# Altium schematic symbol library SchlibPadometer.SchLib: 28 symbols
Pins are listed as number, name and electrical type; pins without a type are passive.

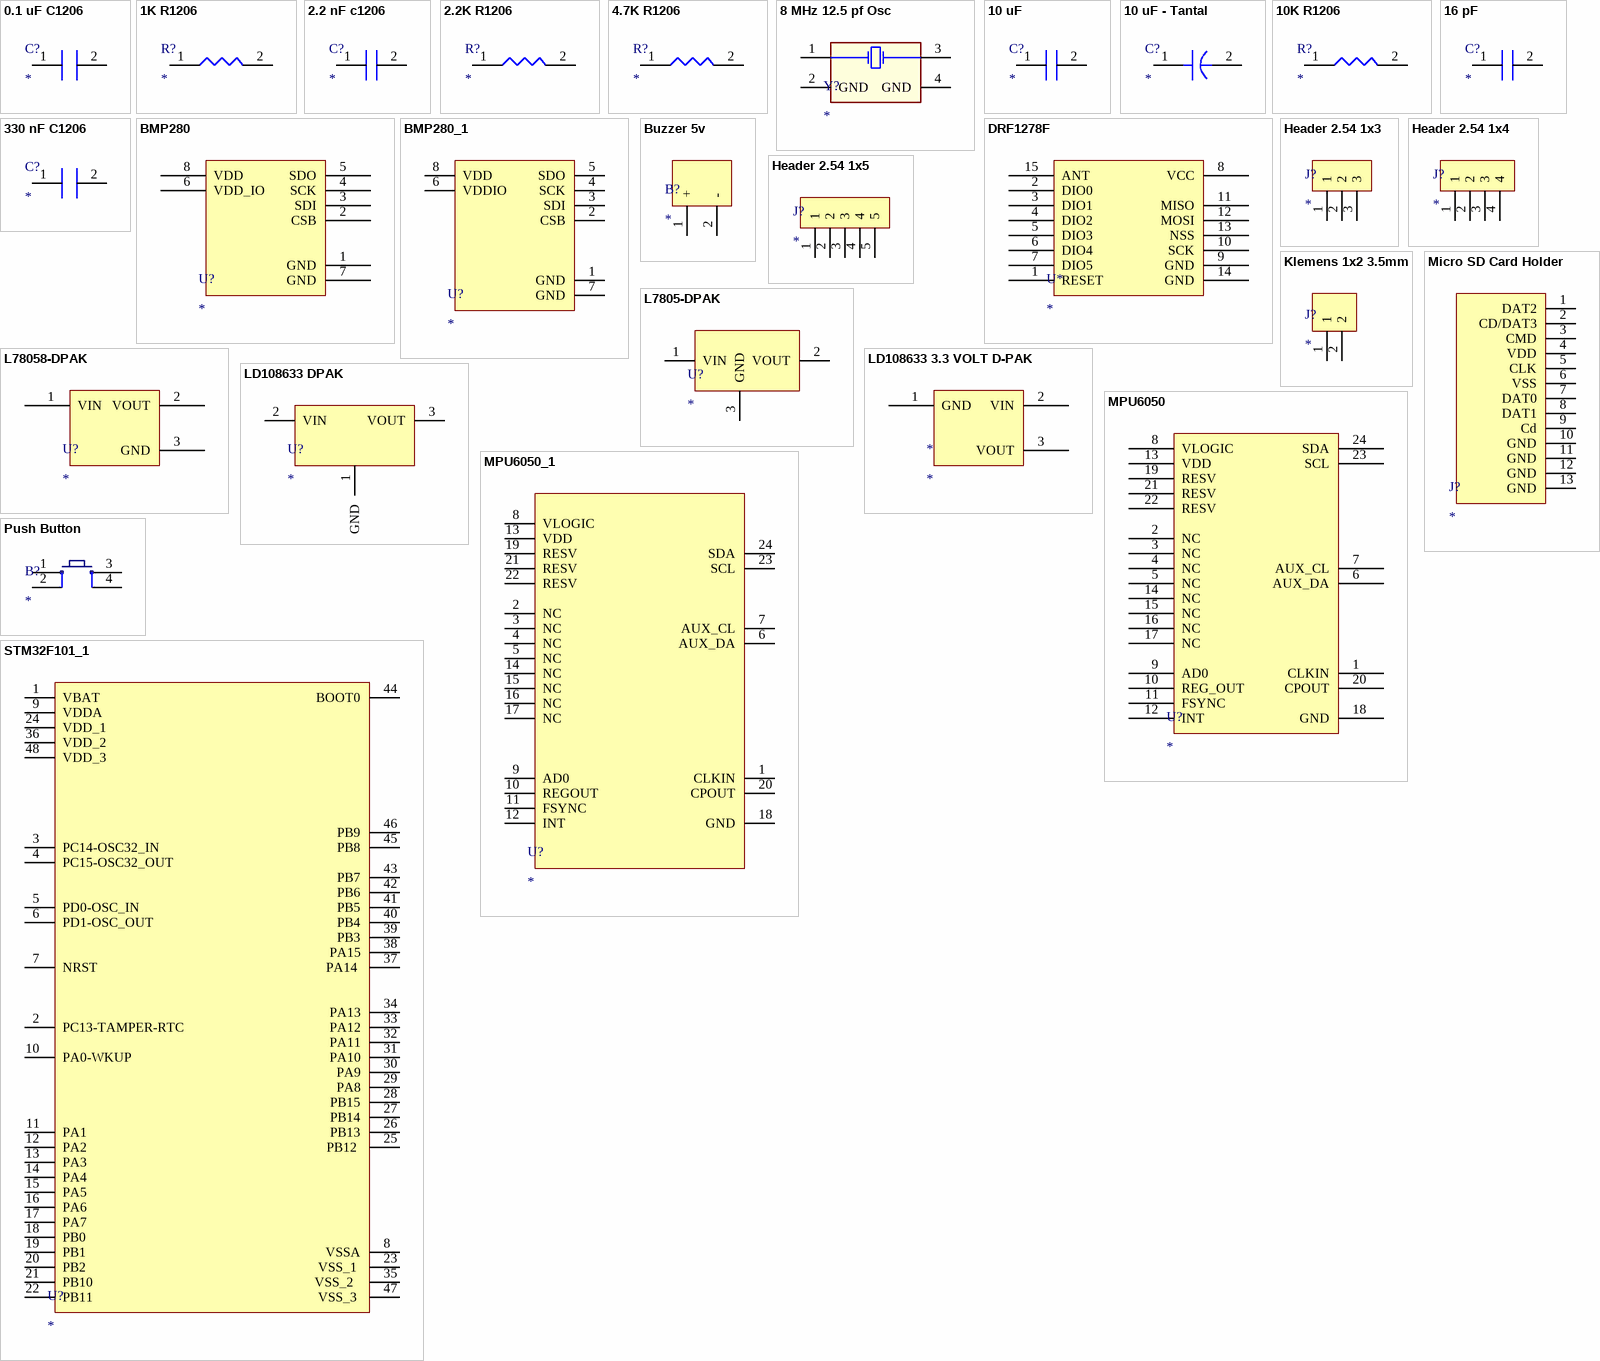
[diagram p0: symbols 0.1 uF C1206 to STM32F101_1]

## 0.1 uF C1206
designator C?
0.1 uF C1206
footprint C1206
pins: 1, 2

## 1K R1206
designator R?
1K R1206
footprint R1206 Resıstor
pins: 1, 2

## 2.2 nF c1206
designator C?
2.2 nF c1206
footprint C1206
pins: 1, 2

## 2.2K R1206
designator R?
2.2K R1206
footprint R1206 Resıstor
pins: 1, 2

## 4.7K R1206
designator R?
4.7K R1206
footprint R1206 Resıstor
pins: 1, 2

## 8 MHz 12.5 pf Osc
designator Y?
8 MHz 12.5 pf Osc
footprint 8 MHZ Osc.
pins: 1 (power) "Regulator Input Supply. Bypass IN to GND with a 1 uF or greater capacitor.", 2 GND (power) "Ground.", 3 "Enable Input. Drive EN high to turn on the regulator; drive it low to turn off the regulator. For automatic startup, connect EN to IN.", 4 GND "Connect a 1 nF or greater capacitor (10 nF is recommended) between BYP and GND to reduce the internal reference noise for low noise applications."

## 10 uF
designator C?
10 uF
footprint C1206
pins: 1, 2

## 10 uF - Tantal
designator C?
10 uF - Tantal
footprint C1206- TANTAL
pins: 1, 2

## 10K R1206
designator R?
10K R1206
footprint R1206 Resıstor
pins: 1, 2

## 16 pF
designator C?
16 pF
footprint C1206
pins: 1, 2

## 330 nF C1206
designator C?
330 nF C1206
footprint C1206
pins: 1, 2

## BMP280
designator U?
footprint BMP280
pins: 1 GND, 2 CSB, 3 SDI, 4 SCK, 5 SDO, 6 VDD_IO, 7 GND, 8 VDD

## BMP280_1
designator U?
BMP280 SENSOR
footprint BMP280
pins: 1 GND, 2 CSB, 3 SDI, 4 SCK, 5 SDO, 6 VDDIO, 7 GND, 8 VDD

## Buzzer 5v
designator B?
Buzzer 5v
footprint Buzzer 5v
pins: 1 +, 2 -

## DRF1278F
designator U*
footprint DRF1278F
pins: 1 RESET, 2 DIO0, 3 DIO1, 4 DIO2, 5 DIO3, 6 DIO4, 7 DIO5, 8 VCC, 9 GND, 10 SCK, 11 MISO, 12 MOSI, 13 NSS, 14 GND, 15 ANT

## Header 2.54 1x3
designator J?
Header 2.54 1x3
footprint Header 2.54 1x3
pins: 1, 2, 3

## Header 2.54 1x4
designator J?
Header 2.54 1x4
footprint Header 2.54 1x4
pins: 1, 2, 3, 4

## Header 2.54 1x5
designator J?
Header 2.54 1x5
footprint Header 2.54 1x5
pins: 1, 2, 3, 4, 5

## Klemens 1x2 3.5mm
designator J?
Klemens 1x2 3.5mm
footprint Klemens 1x2 - 3.5mm
pins: 1, 2

## L7805-DPAK
designator U?
L7805 5V REGULATOR. SMD PAKET
footprint DPAK228P972X230-3N (D-PAK, 3-Pads, Body 6,40x6,56mm (max), IPC Medium Density)
pins: 1 VIN, 2 VOUT, 3 GND

## L78058-DPAK
designator U?
L7805 SMD
footprint L7805 5v D-PAK (D-PAK, 3-Pads, Body 6,40x6,59mm (max), IPC Medium Density)
pins: 1 VIN, 2 VOUT, 3 GND

## LD108633 3.3 VOLT D-PAK
designator *
footprint L7805 5v D-PAK (D-PAK, 3-Pads, Body 6,40x6,59mm (max), IPC Medium Density)
pins: 1 GND, 2 VIN, 3 VOUT

## LD108633 DPAK
designator U?
LD1086 3.3V REGULATOR
footprint DPAK228P972X230-3N (D-PAK, 3-Pads, Body 6,40x6,56mm (max), IPC Medium Density)
pins: 1 GND, 2 VIN, 3 VOUT

## Micro SD Card Holder
designator J?
Micro SD Card Holder
footprint Micro SD Card Holder
pins: 1 DAT2, 2 CD/DAT3, 3 CMD, 4 VDD, 5 CLK, 6 VSS, 7 DAT0, 8 DAT1, 9 Cd, 10 GND, 11 GND, 12 GND, 13 GND

## MPU6050
designator U?
footprint MPU6050 (QFN, 24-Leads, Body 4,00x4,00mm, Pitch 0,50mm, Thermal Pad 2,70x2,60mm, IPC Medium Density)
pins: 1 CLKIN, 2 NC, 3 NC, 4 NC, 5 NC, 6 AUX_DA, 7 AUX_CL, 8 VLOGIC, 9 AD0, 10 REG_OUT, 11 FSYNC, 12 INT, 13 VDD, 14 NC, 15 NC, 16 NC, 17 NC, 18 GND, 19 RESV, 20 CPOUT, 21 RESV, 22 RESV, 23 SCL, 24 SDA

## MPU6050_1
designator U?
MPU6050 GYRO
footprint QFN50P400X400X90_HS-25N (QFN, 24-Leads, Body 4,00x4,00mm, Pitch 0,50mm, Thermal Pad 2,70x2,60mm, IPC Medium Density)
pins: 1 CLKIN, 2 NC, 3 NC, 4 NC, 5 NC, 6 AUX_DA, 7 AUX_CL, 8 VLOGIC, 9 AD0, 10 REGOUT, 11 FSYNC, 12 INT, 13 VDD, 14 NC, 15 NC, 16 NC, 17 NC, 18 GND, 19 RESV, 20 CPOUT, 21 RESV, 22 RESV, 23 SCL, 24 SDA

## Push Button
designator B?
Smd Push Button; Satın Alma Linki: https://urun.n11.com/diger/mini-pushbutton-switch-smd-P227461537?gclid=Cj0KCQjwkoDmBRCcARIsAG3xzl8Y_-jeD7HocNM6lvuZ_rVp83568XPGtNzlPwXWLph8oCRqo0yh87UaApZYEALw_wcB&gclsrc=aw.ds
footprint PUSB BUTTON-SMD
pins: 1, 2, 3, 4

## STM32F101_1
designator U?
STM32F101 48 PİNLİ MİKROİŞLEMCİ
footprint LQFP48-STM (TSQFP, 48-Leads, Body 7,00x7,00mm, Pitch 0,50mm, IPC Medium Density)
pins: 1 VBAT, 2 PC13-TAMPER-RTC, 3 PC14-OSC32_IN, 4 PC15-OSC32_OUT, 5 PD0-OSC_IN, 6 PD1-OSC_OUT, 7 NRST, 8 VSSA, 9 VDDA, 10 PA0-WKUP, 11 PA1, 12 PA2, 13 PA3, 14 PA4, 15 PA5, 16 PA6, 17 PA7, 18 PB0, 19 PB1, 20 PB2, 21 PB10, 22 PB11, 23 VSS_1 , 24 VDD_1, 25 PB12 , 26 PB13, 27 PB14, 28 PB15, 29 PA8, 30 PA9, 31 PA10, 32 PA11, 33 PA12, 34 PA13, 35 VSS_2  , 36 VDD_2 , 37 PA14 , 38 PA15, 39 PB3, 40 PB4, 41 PB5, 42 PB6, 43 PB7, 44 BOOT0, 45 PB8, 46 PB9, 47 VSS_3 , 48 VDD_3 